# Altium footprint library LX1-RS232.PcbLib: 3 footprints
Each footprint in its own frame and in the unit in brackets; x right, y up, seen from the top. Pads: shape width x height; smd on the part's side, far side on the other; paste and mask are expansions set on the pad; w line width, h text height; cw(c..) or ccw(c..) is an arc to the next point about the centre after c.
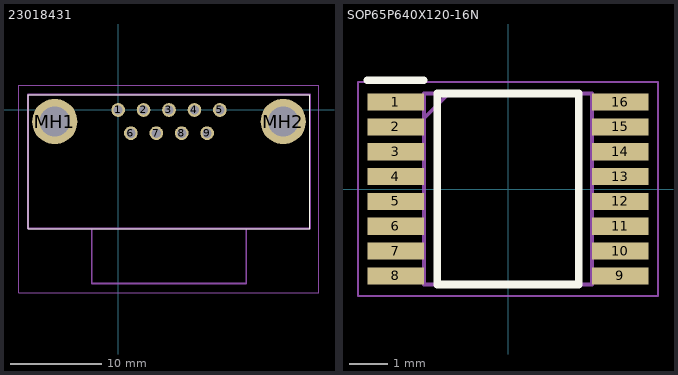
[diagram p0: the footprints below, top view; thin cyan lines are the x and y axes]

## 23018431 [mm]
pads (11):
  round 1.5 hole 1: 1(0,0) 2(2.78,0) 3(5.56,0) 4(8.34,0) 5(11.12,0) 6(1.39,-2.54) 7(4.17,-2.54) 8(6.95,-2.54) 9(9.73,-2.54)
  round 4.95 hole 3.3: MH1(-6.935,-1.27) MH2(18.055,-1.27)
Top Overlay:
  lines w0.1: -9.845,-12.97 -9.845,1.68 20.965,1.68 20.965,-12.97 -9.845,-12.97
Mechanical 13:
  lines w0.2: -2.89,-12.97 -2.89,-18.97 14.01,-18.97 14.01,-12.97 ; -9.845,-12.97 -9.845,1.68 20.965,1.68 20.965,-12.97 -9.845,-12.97
Mechanical 15:
  lines w0.1: -10.845,-19.97 -10.845,2.68 21.965,2.68 21.965,-19.97 -10.845,-19.97
3D body "2301843-1.stp": height 13.59, standoff -3.79, extent -9.855,-18.95 20.955,1.7

## PCBComponent_1 [mm]

## SOP65P640X120-16N [mm]
pads (16):
  rect 1.475x0.45 smd: 1(-2.938,2.275) 2(-2.938,1.625) 3(-2.938,0.975) 4(-2.938,0.325) 5(-2.938,-0.325) 6(-2.938,-0.975) 7(-2.938,-1.625) 8(-2.938,-2.275) 9(2.938,-2.275) 10(2.938,-1.625) 11(2.938,-0.975) 12(2.938,-0.325) 13(2.938,0.325) 14(2.938,0.975) 15(2.938,1.625) 16(2.938,2.275)
Top Overlay:
  lines w0.2: -3.675,2.85 -2.2,2.85 ; -1.85,-2.5 -1.85,2.5 1.85,2.5 1.85,-2.5 -1.85,-2.5
Mechanical 13:
  lines w0.1: -2.2,1.85 -1.55,2.5 ; -2.2,-2.5 -2.2,2.5 2.2,2.5 2.2,-2.5 -2.2,-2.5
Mechanical 15:
  lines w0.05: -3.925,-2.8 -3.925,2.8 3.925,2.8 3.925,-2.8 -3.925,-2.8
3D body "MAX3232CPWR.stp": height 1.2, standoff 0, extent -3.2,-2.5 3.2,2.5